# Altium schematic symbol library Personalitzats (2).SchLib: 77 symbols
Pins are listed as number, name and electrical type; pins without a type are passive.

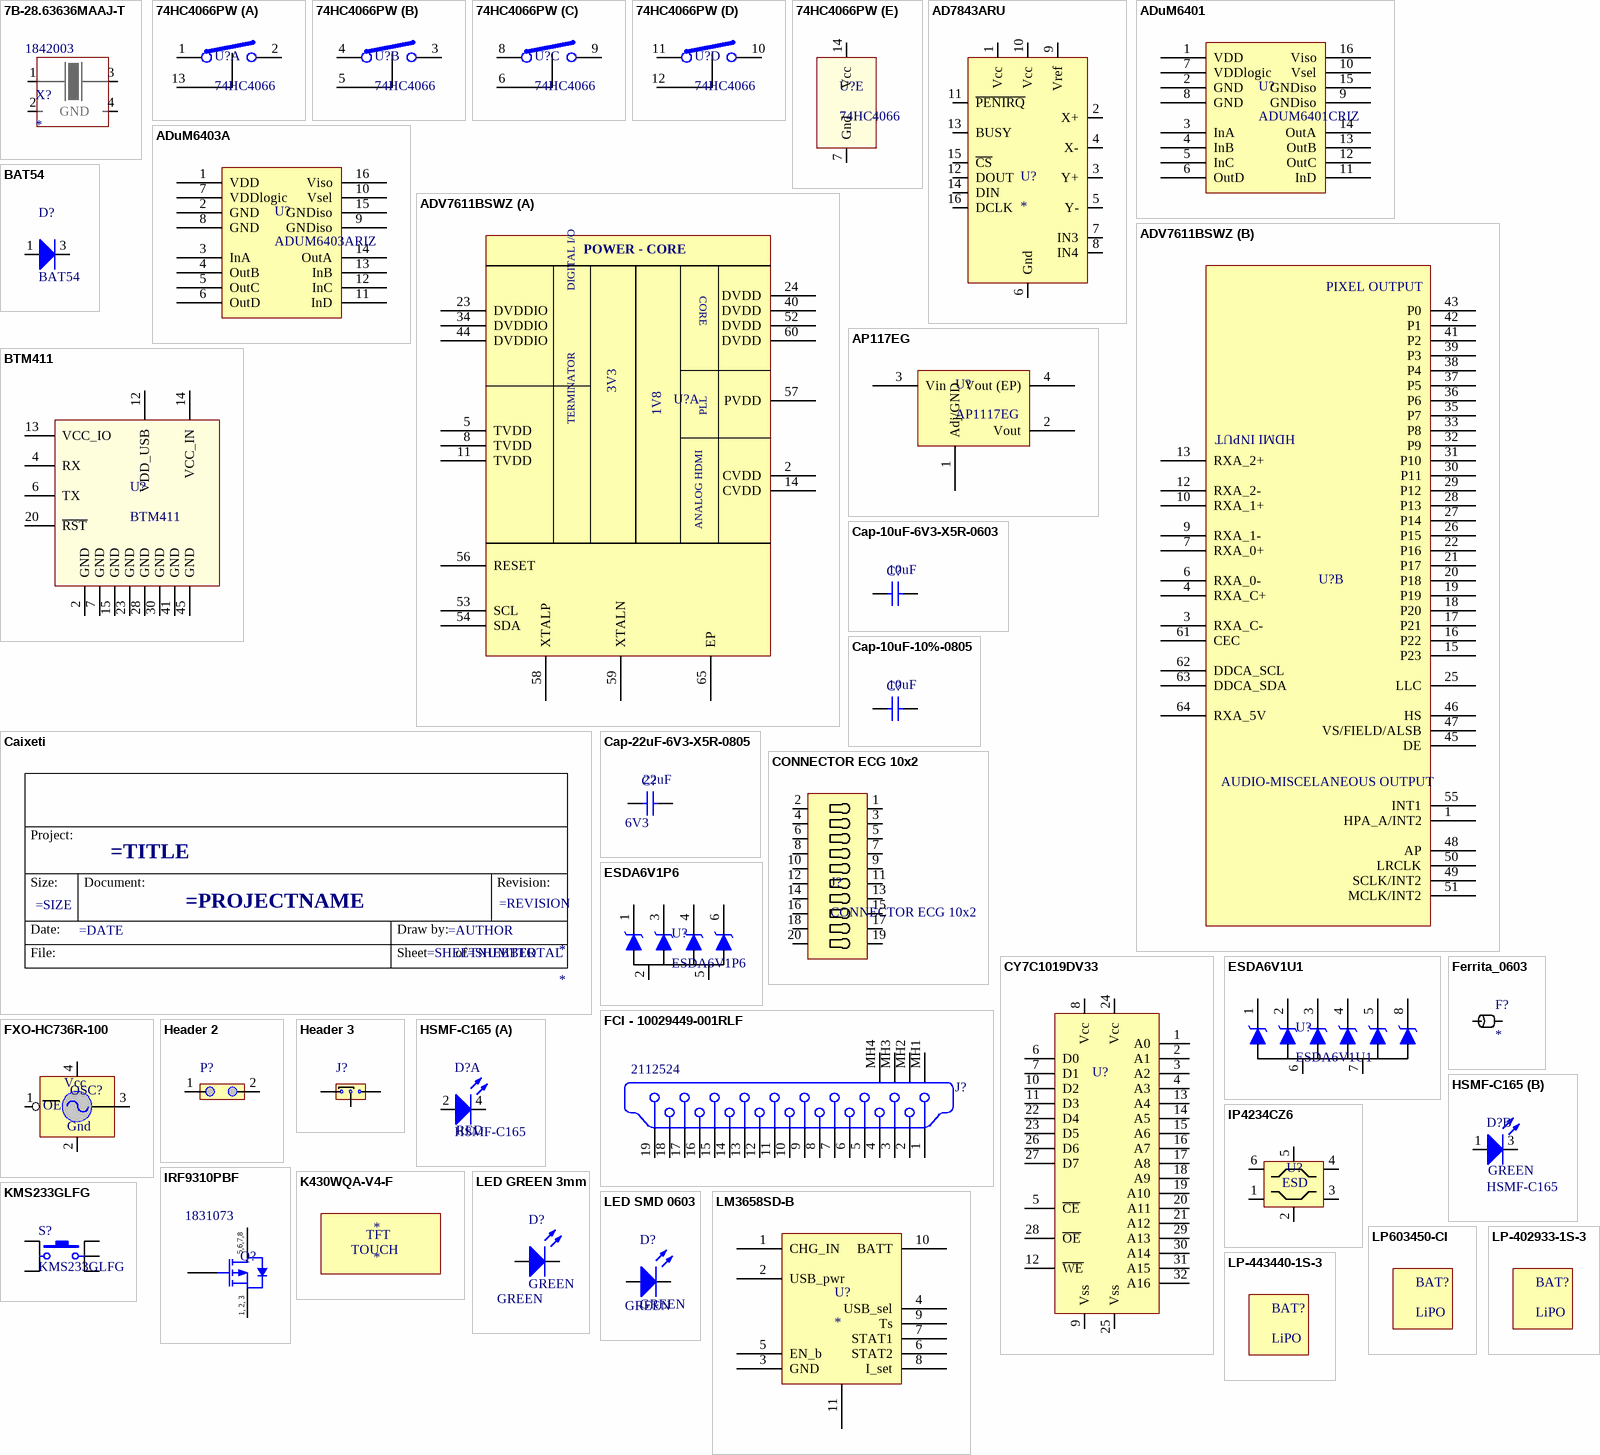
[diagram p0: symbols 7B-28.63636MAAJ-T to LP-443440-1S-3]

## 7B-28.63636MAAJ-T
designator X?  Supplier Part Number 1: 1842003
Supplier 1: Farnell
footprint 3.2x5 mm ceramic  package (Miniature Quartz Crystals)
pins: 1 X1, 2 GND, 3 X2, 4 GND

## 74HC4066PW
designator U?, comment 74HC4066
Analog Switch
footprint TSOP65P640-14AM (TSOP, 14-Leads, Body 5x4.4mm, Pitch 0.65mm, IPC Low Density)
part A pins: 1 Y, 2 Z, 13 E
part B pins: 3 Z, 4 Y, 5 E
part C pins: 6 E, 8 Y, 9 Z
part D pins: 10 Z, 11 Y, 12 E
part E pins: 7 Gnd, 14 Vcc

## AD7843ARU
designator U?
footprint TSSOP16
pins: 1 Vcc, 2 X+, 3 Y+, 4 X-, 5 Y-, 6 Gnd, 7 IN3, 8 IN4, 9 Vref, 10 Vcc, 11 ~{PENIRQ}, 12 DOUT, 13 BUSY, 14 DIN, 15 ~{CS}, 16 DCLK

## ADuM6401
designator U?, comment ADUM6401CRIZ
isolated DC/DC + quad channels
footprint SOIC127P1030-16CN (SOIC, 16-Leads, Body 10.5x7.5mm, Pitch 1.27mm, IPC Medium Density)
pins: 1 VDD, 2 GND, 3 InA, 4 InB, 5 InC, 6 OutD, 7 VDDlogic, 8 GND, 9 GNDiso, 10 Vsel, 11 InD, 12 OutC, 13 OutB, 14 OutA, 15 GNDiso, 16 Viso

## ADuM6403A
designator U?, comment ADUM6403ARIZ
isolated DC/DC + quad channels
footprint SOIC127P1030-16CN (SOIC, 16-Leads, Body 10.5x7.5mm, Pitch 1.27mm, IPC Medium Density)
pins: 1 VDD, 2 GND, 3 InA, 4 OutB, 5 OutC, 6 OutD, 7 VDDlogic, 8 GND, 9 GNDiso, 10 Vsel, 11 InD, 12 InC, 13 InB, 14 OutA, 15 GNDiso, 16 Viso

## ADV7611BSWZ
designator U?, comment HDMI INPUT  (value not drawn)
ADV7611BSWZ; Supplier 1: Farnell; Supplier Part Number 1: 1903660
footprint TSQFP50P1200X1200_HS-64L (Thin QFP, 64-Leads, Body 10x10mm, Pitch 0.5mm, Exposed Pad, IPC High Density)
part A pins: 2 CVDD (power) "Power", 5 TVDD (power) "Power", 8 TVDD (power) "Power", 11 TVDD (power) "Power", 14 CVDD (power) "Power", 23 DVDDIO (power) "Power", 24 DVDD (power) "Power", 34 DVDDIO (power) "Power", 40 DVDD (power) "Power", 44 DVDDIO (power) "Power", 52 DVDD (power) "Power", 53 SCL "Miscellaneous digital", 54 SDA "Miscellaneous digital", 56 RESET "Miscellaneous digital", 57 PVDD (power) "Power", 58 XTALP "Miscellaneous digital", 59 XTALN "Miscellaneous digital", 60 DVDD (power) "Power", 65 EP "Exposed Pad"
part B pins: 1 HPA_A/INT2 "Miscellaneous digital", 3 RXA_C- "HDMI input", 4 RXA_C+ "HDMI input", 6 RXA_0- "HDMI input", 7 RXA_0+ "HDMI input", 9 RXA_1- "HDMI input", 10 RXA_1+ "HDMI input", 12 RXA_2- "HDMI input", 13 RXA_2+ "HDMI input", 15 P23 "Digital video output", 16 P22 "Digital video output", 17 P21 "Digital video output", 18 P20 "Digital video output", 19 P19 "Digital video output", 20 P18 "Digital video output", 21 P17 "Digital video output", 22 P16 "Digital video output", 25 LLC "Digital video output", 26 P15 "Digital video output", 27 P14 "Digital video output", 28 P13 "Digital video output", 29 P12 "Digital video output", 30 P11 "Digital video output", 31 P10 "Digital video output", 32 P9 "Digital video output", 33 P8 "Digital video output", 35 P7 "Digital video output", 36 P6 "Digital video output", 37 P5 "Digital video output", 38 P4 "Digital video output", 39 P3 "Digital video output", 41 P2 "Digital video output", 42 P1 "Digital video output", 43 P0 "Digital video output", 45 DE "Miscellaneous digital", 46 HS "Digital video output", 47 VS/FIELD/ALSB "Digital input/output", 48 AP "Miscellaneous digital", 49 SCLK/INT2 "Miscellaneous digital", 50 LRCLK "Miscellaneous digital", 51 MCLK/INT2 "Miscellaneous digital", 55 INT1 "Miscellaneous digital", 61 CEC "Digital input/output", 62 DDCA_SCL "HDMI input", 63 DDCA_SDA "HDMI input", 64 RXA_5V "HDMI input"
part A text: POWER - CORE; DIGITAL I/O; CORE; 3V3; 1V8; PLL; TERMINATOR; ANALOG HDMI
part B text: PIXEL OUTPUT; AUDIO-MISCELANEOUS OUTPUT

## AP117EG
designator U?, comment AP1117EG
footprint SOT223-4L (SOT223, 4-Leads, Body 6.5x3.5mm, Pitch 2.3mm, Lead Span 7mm, IPC High Density)
pins: 1 Adj/GND (power), 2 Vout (power), 3 Vin (power), 4 Vout (EP)

## BAT54
designator D?
SCHOTTKY DIODE; Published: 8-Jun-2000; LatestRevisionDate: 08-Jul-2005; LatestRevisionNote: Mech Layer 1 removed.; Publisher: Altium Limited; PackageDescription: SOT23; Diameter: 3mm
footprint SOT23
pins: 1 A "Red A", 3 K "Red K"

## BTM411
designator U?
BTM411 Bluetooth Module
footprint BTM411 (Laird Bluetooth Module)
pins: 2 GND, 4 RX, 6 TX, 7 GND, 12 VDD_USB, 13 VCC_IO, 14 VCC_IN, 15 GND, 20 ~{RST}, 23 GND, 28 GND, 30 GND, 41 GND, 45 GND

## Caixeti
designator *  (no BOM)
Titol: =TITLE; Revisio: =REVISION; Sheet: =SHEETNUMBER; NumberOfSheets: =SHEETTOTAL; Tamany: =SIZE; Nom: =PROJECTNAME; Autor: =AUTHOR; Data: =DATE
text: Project:; Size:; Document:; Revision:; Date:; Draw by:; File:; Sheet        of

## Cap-10uF-6V3-X5R-0603
designator C?  value 10uF  (hidden comment: Cap-10uF-6V3-X5R-0603)
Capacitor; Published: 8-Jun-2000; LatestRevisionDate: 17-Jul-2002; LatestRevisionNote: Re-released for DXP Platform.; PackageReference: RAD-0.3; Publisher: Altium Limited; PackageDescription: Radial Cap, Thru-Hole; 2 Leads; 0.3 in Pin Spacing
footprint CAPC1608N (Chip Capacitor, Body 1.6x0.8mm, IPC Medium Density)
pins: 1, 2

## Cap-10uF-10%-0805
designator C?  value 10uF  (hidden comment: Cap-10uF-10%-0805)
Capacitor; Published: 8-Jun-2000; LatestRevisionDate: 17-Jul-2002; LatestRevisionNote: Re-released for DXP Platform.; PackageReference: RAD-0.3; Publisher: Altium Limited; PackageDescription: Radial Cap, Thru-Hole; 2 Leads; 0.3 in Pin Spacing
footprint CAPC2012N (Chip Capacitor, Body 2.0x1.3mm, IPC Medium Density)
pins: 1, 2

## Cap-22uF-6V3-X5R-0805
designator C?  value 22uF  Voltage: 6V3  (hidden comment: Cap-22uF-6V3-X5R-0805)
Capacitor; Dielectric: X5R; Published: 8-Jun-2000; LatestRevisionDate: 17-Jul-2002; LatestRevisionNote: Re-released for DXP Platform.; PackageReference: RAD-0.3; Publisher: Altium Limited; PackageDescription: Radial Cap, Thru-Hole; 2 Leads; 0.3 in Pin Spacing
footprint CAPC2012N (Chip Capacitor, Body 2.0x1.3mm, IPC Medium Density)
pins: 1, 2

## CONNECTOR ECG 10x2
designator J?
footprint 2x10 YOKE PCB CONNECTOR
pins: 1, 2, 3, 4, 5, 6, 7, 8, 9, 10, 11, 12, 13, 14, 15, 16, 17, 18, 19, 20

## CY7C1019DV33
designator U?  (value not drawn)
footprint V32 (SOJ, Molded; 32 Leads; Body Width 10.16 mm)
pins: 1 A0, 2 A1, 3 A2, 4 A3, 5 ~{CE}, 6 D0, 7 D1, 8 Vcc, 9 Vss, 10 D2, 11 D3, 12 ~{WE}, 13 A4, 14 A5, 15 A6, 16 A7, 17 A8, 18 A9, 19 A10, 20 A11, 21 A12, 22 D4, 23 D5, 24 Vcc, 25 Vss, 26 D6, 27 D7, 28 ~{OE}, 29 A13, 30 A14, 31 A15, 32 A16

## ESDA6V1P6
designator U?
6 UNIDIRECTIONAL TRANSIL FUNCTIONS  ?  LOW LEAKAGE CURRENT: I  R  max. < 2  µ  A  ?  200 W PEAK PULSE POWER (8/20  µ  s)
footprint SOT666IP
pins: 1, 2, 3, 4, 5, 6

## ESDA6V1U1
designator U?
6 UNIDIRECTIONAL TRANSIL FUNCTIONS  ?  LOW LEAKAGE CURRENT: I  R  max. < 2  µ  A  ?  200 W PEAK PULSE POWER (8/20  µ  s)
footprint SO8_N (SOIC, 8-Leads, Body 4.9x3.9mm, Pitch 1.27mm, IPC Medium Density)
pins: 1, 2, 3, 4, 5, 6, 7, 8

## FCI - 10029449-001RLF
designator J?  Supplier Part Number 1: 2112524
FCI - 10029449-001RLF - CONNECTOR, HDMI, RECEPTACLE, 19WAY; PCB_Layout: Complies with manufacturer's recommendation.; Published: 21-Sep-2007; DatasheetVersion: rev1, Nov-2006; PackageReference: mini-HDMI; Publisher: Altium Limited; PackageDescription: HDMI 1.3 Type C, SM, 19 Position, Female, Right Angle, Body 7.9 x 11.2 x 3.3 mm (LxWxH); ComponentLink1Description: Manufacturer Link; ComponentLink1URL: http://www.wieson.com/; ComponentLink2Description: Datasheet; ComponentLink2URL: http://www.wieson.com/drawing_dwn.php?ID=990&Field=ProImg; Supplier 1: Farnell
signal-integrity model HDMI
footprint mini-HDMI (Connector; mini-HDMI, SM, 19 Position, Right Angle, Body 7.9 x 11.2 x 3.3 mm (LxWxH))
pins: 1 "TMDS Data2+", 2 "TMDS Data2 Shield", 3 "TMDS Data2-", 4 "TMDS Data1+", 5 "TMDS Data1 Shield", 6 "TMDS Data1-", 7 "TMDS Data0+", 8 "TMDS Data0 Shield", 9 "TMDS Data0-", 10 "TMDS Clock+", 11 "TMDS Clock Shield", 12 "TMDS Clock-", 13 "CEC", 14 "Reserved (N/C on device)", 15 "SCL", 16 "SDA", 17 "DDC/CEC Ground", 18 "+5V Power", 19 "Hot Plug Detect", MH1 "Ground Plane (Shell)", MH2 "Ground Plane (Shell)", MH3 "Ground Plane (Shell)", MH4 "Ground Plane (Shell)"

## Ferrita_0603
designator F?
Impedance: *; Frequency: *; Current: *
footprint INDC0603L (Chip Inductor, Body 0.6x0.3mm, IPC High Density)
pins: 1, 2

## FXO-HC736R-100
designator OSC?  (value not drawn)
OSC., 100 MHZ, 3,3 V, SMD, 25ppm; Supplier 1: Farnell; Supplier Part Number 1: 2064049
footprint 5x7 mm ceramic  package - Alternate pin num (Miniature Quartz Crystals)
pins: 1 ~{OE}, 2 Gnd, 3 Out, 4 Vcc
text: OE

## Header 2
designator P?
Header, 2-Pin; LatestRevisionDate: 17-Jul-2002; LatestRevisionNote: Re-released for DXP Platform.; Publisher: Altium Limited
footprint HDR1X2 (Connector; Header; 2 Position)
signal-integrity model Connector
pins: 1, 2

## Header 3
designator J?  (value not drawn)
Header, 3-Pin; LatestRevisionDate: 17-Jul-2002; LatestRevisionNote: Re-released for DXP Platform.; Publisher: Altium Limited
footprint HDR1X3
signal-integrity model Connector
pins: 1, 2, 3

## HSMF-C165
designator D?
SMD LED BICOLOR RED/GREEN; Published: 8-Jun-2000; LatestRevisionDate: 08-Jul-2005; LatestRevisionNote: Mech Layer 1 removed.; PackageReference: LED-0; Publisher: Altium Limited; PackageDescription: LED; 4 Leads; Diameter: 3mm
footprint HSMF (SMD BICOLOR LED)
part A pins: 2 A "Red A", 4 K "Red K"
part B pins: 1 A "Green A", 3 K "Green K"
part A text: RED
part B text: GREEN

## IP4234CZ6
designator U?, comment Single USB 2.0 ESD protection to IEC 61000-4-2 level 4  (value not drawn)
IP4234CZ6; Supplier 1: Farnell; Supplier Part Number 1: 1829276
footprint SOT457 (SOT-457/SC-74; 6 Leads; Body 3.1 x 3 mm, inc. leads (LxW max))
pins: 1, 2, 3, 4, 5, 6
text: ESD

## IRF9310PBF
designator Q?  Supplier Part Number 1: 1831073  (hidden comment: IRF9310PBF)
MOSFET-P , 20A, 30V; Supplier 1: Farnell
footprint SO8 (Small Outline; 8 Leads; Body Width 3.9 mm; Pitch 1.27 mm)
pins: 1 S, 2 S, 3 S, 4 G, 5 D, 6 D, 7 D, 8 D
text: 5,6,7,8; 1, 2, 3

## K430WQA-V4-F
designator *
footprint K430WQA-V4-F
text: TFT; TOUCH

## KMS233GLFG
designator S?
Switch; Published: 24-Mar-1999; LatestRevisionDate: 17-Jul-2002; LatestRevisionNote: Re-released for DXP Platform.; PackageReference: SPST-NO; Publisher: Altium Limited; PackageDescription: Switch; 2 Leads
footprint KMS233GLFG (SWITCH, SPST-NO, 2N, 0.1A, 32VDC)
pins: 1, 2, 3, 4, 5

## LED GREEN 3mm
designator D?, comment GREEN
LED GREEN 3mm; Published: 8-Jun-2000; LatestRevisionDate: 08-Jul-2005; LatestRevisionNote: Mech Layer 1 removed.; PackageReference: LED-0; Publisher: Altium Limited; PackageDescription: LED; 2 Leads; Diameter: 3mm; Color: GREEN
footprint LED-0 (LED; 2 Leads)
simulation model LED0 (Diode)
pins: 1 A, 2 K

## LED SMD 0603
designator D?, comment GREEN
LED 0603; Published: 8-Jun-2000; LatestRevisionDate: 08-Jul-2005; LatestRevisionNote: Mech Layer 1 removed.; PackageReference: LED-0; Publisher: Altium Limited; PackageDescription: LED; 2 Leads; Diameter: 3mm; Color: GREEN
footprint LED-0 (Footprint not found)
simulation model LED0 (Diode)
pins: 1 A, 2 K

## LM3658SD-B
designator U?
single cell lithium_ion/li_po charger
pins: 1 CHG_IN, 2 USB_pwr, 3 GND, 4 USB_sel, 5 EN_b, 6 STAT2, 7 STAT1, 8 I_set, 9 Ts, 10 BATT, 11 Pad1

## LP603450-CI
designator BAT?, comment LiPO
3V7@1050mAh
footprint LP603450-CI (Pack bateria Medica de 1050mAh)

## LP-402933-1S-3
designator BAT?, comment LiPO
3V7@300mAh
footprint LP-402933-IS-3

## LP-443440-1S-3
designator BAT?, comment LiPO
3V7@560mAh
footprint LP-443440-1S-3

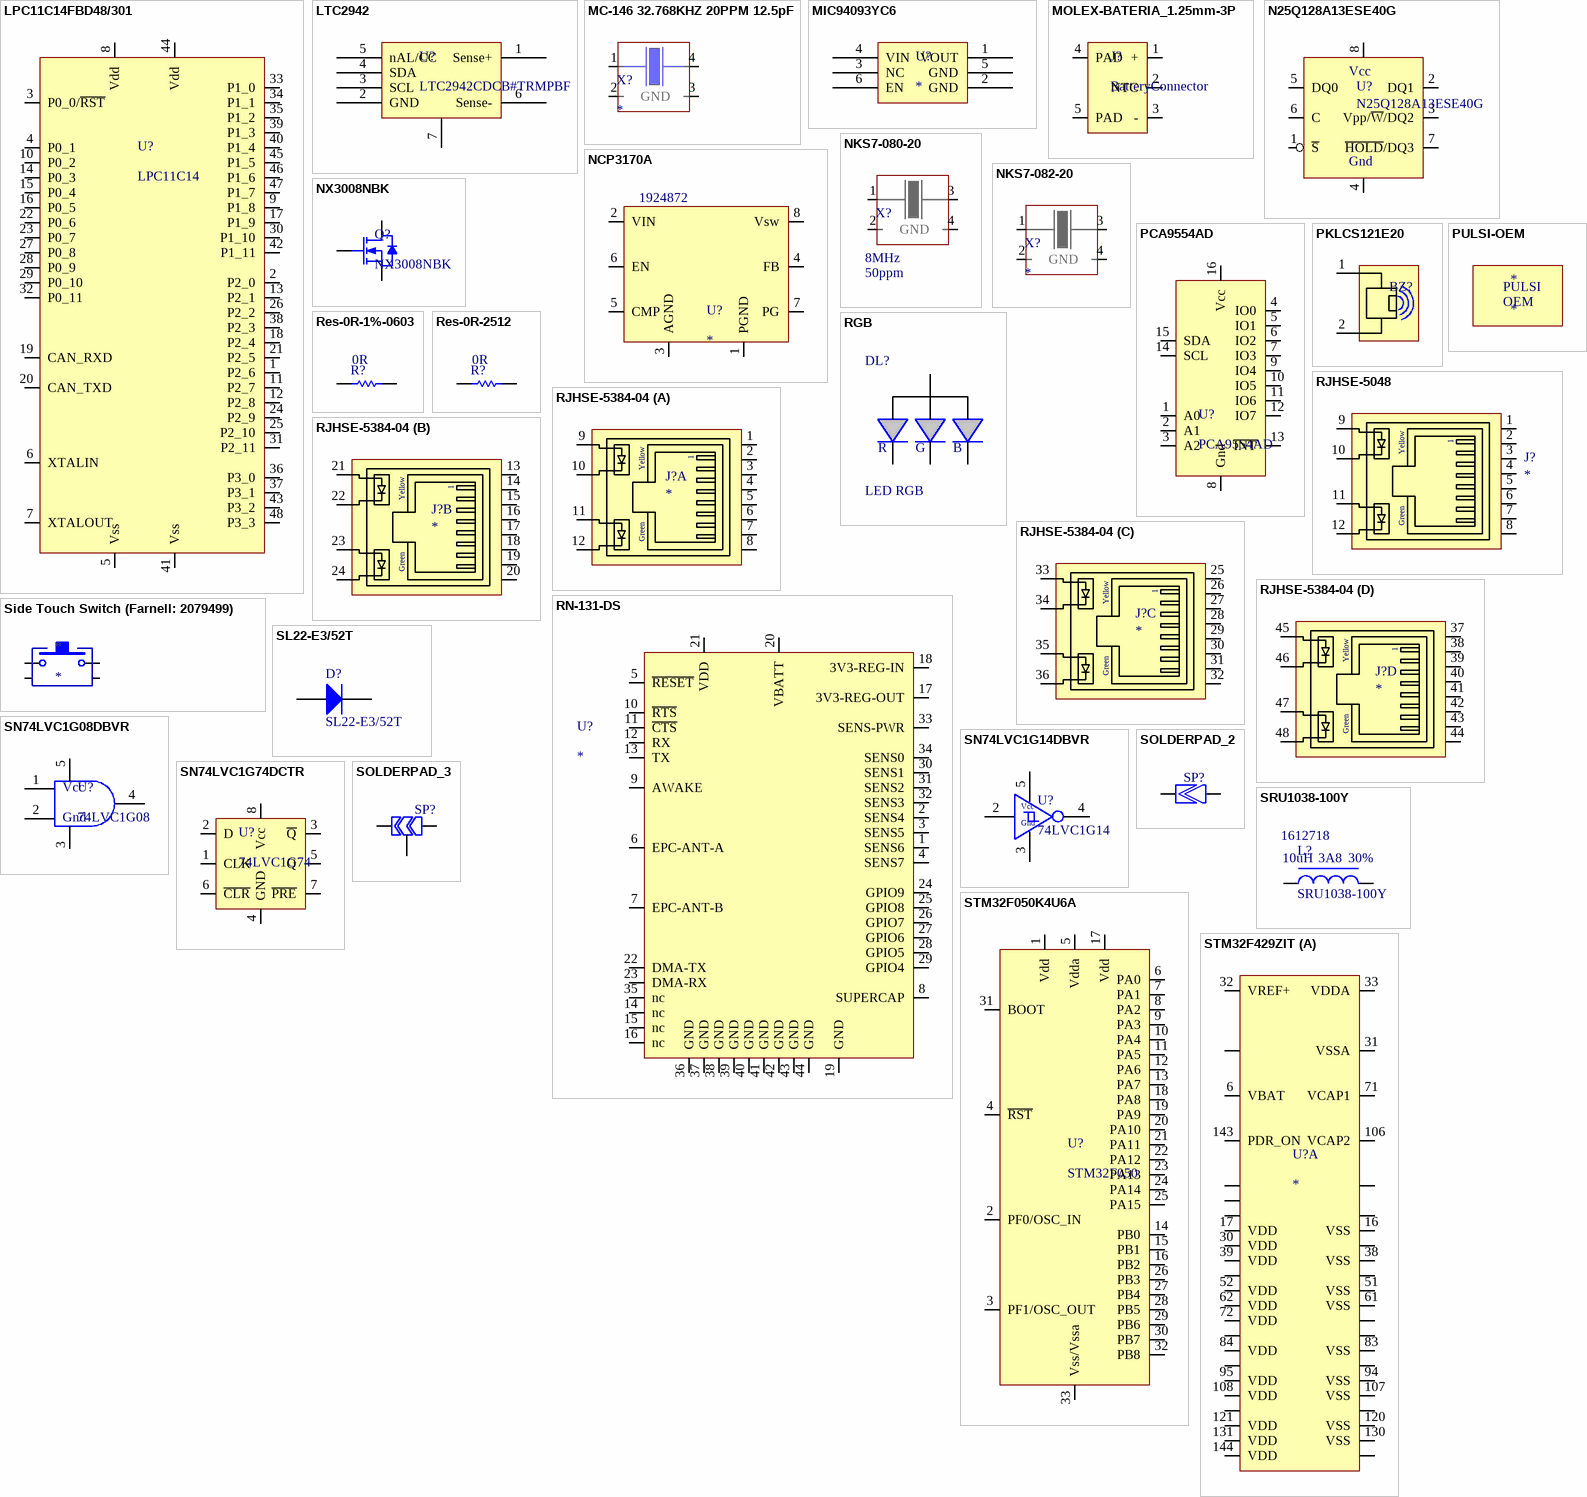
[diagram p1: symbols LPC11C14FBD48/301 to STM32F429ZIT]

## LPC11C14FBD48/301
designator U?, comment LPC11C14
footprint SQFP50P900X900-48M (Shrink QFP, 48-Leads, Body 7x7mm, Pitch 0.5mm, IPC Low Density)
pins: 1 P2_6, 2 P2_0, 3 P0_0/~{RST}, 4 P0_1, 5 Vss, 6 XTALIN, 7 XTALOUT, 8 Vdd (power), 9 P1_8, 10 P0_2, 11 P2_7, 12 P2_8, 13 P2_1, 14 P0_3, 15 P0_4, 16 P0_5, 17 P1_9, 18 P2_4, 19 CAN_RXD, 20 CAN_TXD, 21 P2_5, 22 P0_6, 23 P0_7, 24 P2_9, 25 P2_10, 26 P2_2, 27 P0_8, 28 P0_9, 29 P0_10, 30 P1_10, 31 P2_11, 32 P0_11, 33 P1_0, 34 P1_1, 35 P1_2, 36 P3_0, 37 P3_1, 38 P2_3, 39 P1_3, 40 P1_4, 41 Vss, 42 P1_11, 43 P3_2, 44 Vdd (power), 45 P1_5, 46 P1_6, 47 P1_7, 48 P3_3

## LTC2942
designator U?, comment LTC2942CDCB#TRMPBF
fuel gauge with integrated adc; alternative: ltc2941 doesn't have adc for voltage/temp measurement; note: -1 version has internal rsense
footprint DFN6-2x3mm
pins: 1 Sense+, 2 GND, 3 SCL, 4 SDA, 5 nAL/CC, 6 Sense-, 7 Pad1

## MC-146 32.768KHZ 20PPM 12.5pF
designator X?
Supplier 1: Farnell; Supplier Part Number 1: 1278038
footprint MC-146
pins: 1 X1, 2 GND, 3 GND, 4 X2

## MIC94093YC6
designator U?
high side load switch with active load discharge
footprint SOT363-6N (SOT363, 6-Leads, Body 2x1.3mm, Pitch 0.65mm, Lead Span 2.1mm, IPC Medium Density)
pins: 1 VOUT, 2 GND, 3 NC, 4 VIN, 5 GND, 6 EN

## MOLEX-BATERIA_1.25mm-3P
designator J?, comment BatteryConnector
footprint MOLEX-SD-53261-0319
pins: 1 +, 2 NTC, 3 -, 4 PAD, 5 PAD

## N25Q128A13ESE40G
designator U?
FLASH, SERIE, 128 MB, 3V, 8WSOIC; Supplier 1: Farnell; Supplier Part Number 1: 2253682
footprint SO8W (Small Outline; 8 Leads; Body Width 7.5 mm; Pitch 1.27 mm)
pins: 1 ~{S}, 2 DQ1, 3 Vpp/~{W}/DQ2, 4 GND, 5 DQ0, 6 C, 7 ~{HOLD}/DQ3, 8 Vcc
text: Gnd

## NCP3170A
designator U?  Supplier Part Number 1: 1924872
NCP3170A; Supplier 1: Farnell
footprint 751-05_N (8-Pin Small Outline Integrated Circuit 1.27 mm Pitch, IPC Medium Density)
pins: 1 PGND, 2 VIN (power), 3 AGND, 4 FB, 5 CMP, 6 EN, 7 PG, 8 Vsw

## NKS7-080-20
designator X?  value 8MHz  Tolerance: 50ppm  (hidden comment: *)
footprint 5x7 mm ceramic  package (Miniature Quartz Crystals)
pins: 1 X1, 2 GND, 3 X2, 4 GND

## NKS7-082-20
designator X?
footprint 5x7 mm ceramic  package (Miniature Quartz Crystals)
pins: 1 X1, 2 GND, 3 X2, 4 GND

## NX3008NBK
designator Q?
footprint SOT23-3L (SOT23, 3-Leads, Body 2.9x1.3mm, Pitch 0.95mm, Lead Span 2.5mm, IPC High Density)
pins: 1 G, 2 S, 3 D

## PCA9554AD
designator U?
footprint SOIC127P1030-16N (SOIC, 16-Leads, Body 10.3x7.5mm, Pitch 1.27mm, IPC Medium Density)
pins: 1 A0, 2 A1, 3 A2, 4 IO0, 5 IO1, 6 IO2, 7 IO3, 8 Gnd, 9 IO4, 10 IO5, 11 IO6, 12 IO7, 13 ~{INT}, 14 SCL, 15 SDA, 16 Vcc

## PKLCS121E20
designator BZ?, comment 2KHz 3V3 to 25Vpp Max  (value not drawn)
Supplier 1: Farnell; Supplier Part Number 1: 1765028
footprint Buzzer
pins: 1, 2

## PULSI-OEM
designator *
footprint PULSI_OEM
text: PULSI; OEM

## Res-0R-1%-0603
designator R?  value 0R  (hidden comment: *)
Resistor; Published: 8-Jun-2000; LatestRevisionDate: 17-Jul-2002; LatestRevisionNote: Re-released for DXP Platform.; PackageReference: AXIAL-0.5; Publisher: Altium Limited; PackageDescription: Axial Device, Thru-Hole; 2 Leads; 0.5 in Pin Spacing
footprint RESC1608N (Chip Resistor, Body 1.6x0.8mm, IPC Medium Density)
pins: 1, 2

## Res-0R-2512
designator R?  value 0R  (hidden comment: Res-0R-2512)
Resistor; Published: 8-Jun-2000; LatestRevisionDate: 17-Jul-2002; LatestRevisionNote: Re-released for DXP Platform.; PackageReference: AXIAL-0.5; Publisher: Altium Limited; PackageDescription: Axial Device, Thru-Hole; 2 Leads; 0.5 in Pin Spacing
footprint RESC6332N (Chip Resistor, Body 6.3x3.2mm, IPC Medium Density)
pins: 1, 2

## RGB
designator DL?, comment LED RGB
footprint PLCC-4
pins: 1 R, 2 C, 3 B, 4 G

## RJHSE-5048
designator J?
RJ45 LEDs TRH LENGUETA UP 1C
footprint P-RJHSE-538X-1
pins: 1, 2, 3, 4, 5, 6, 7, 8, 9, 10, 11, 12
text: Yellow; Green

## RJHSE-5384-04
designator J?
footprint P-RJHSE-538X-4
part A pins: 1, 2, 3, 4, 5, 6, 7, 8, 9, 10, 11, 12
part B pins: 13, 14, 15, 16, 17, 18, 19, 20, 21, 22, 23, 24
part C pins: 25, 26, 27, 28, 29, 30, 31, 32, 33, 34, 35, 36
part D pins: 37, 38, 39, 40, 41, 42, 43, 44, 45, 46, 47, 48
part A text: Yellow; Green
part B text: Yellow; Green
part C text: Yellow; Green
part D text: Yellow; Green

## RN-131-DS
designator U?
RN-131-DS
footprint RN-131-DS
pins: 1 SENS6, 2 SENS4, 3 SENS5, 4 SENS7, 5 ~{RESET}, 6 EPC-ANT-A, 7 EPC-ANT-B, 8 SUPERCAP, 9 AWAKE, 10 ~{RTS}, 11 ~{CTS}, 12 RX, 13 TX, 14 nc, 15 nc, 16 nc, 17 3V3-REG-OUT, 18 3V3-REG-IN, 19 GND, 20 VBATT, 21 VDD, 22 DMA-TX, 23 DMA-RX, 24 GPIO9, 25 GPIO8, 26 GPIO7, 27 GPIO6, 28 GPIO5, 29 GPIO4, 30 SENS1, 31 SENS2, 32 SENS3, 33 SENS-PWR, 34 SENS0, 35 nc, 36 GND, 37 GND, 38 GND, 39 GND, 40 GND, 41 GND, 42 GND, 43 GND, 44 GND

## Side Touch Switch (Farnell: 2079499)
designator *
footprint VERTICAL-SWITCH (5N Type Side-operational Light Touch Switches)
pins: 1, 2, 2 4, 2 3

## SL22-E3/52T
designator D?
SCHOTTKY RECTIFIER, 2A 20V; Published: 8-Jun-2000; LatestRevisionDate: 17-Jul-2002; LatestRevisionNote: Re-released for DXP Platform.; PackageVersion: Sep-1996; PackageReference: SMC; Publisher: Altium Limited; PackageDescription: DO-214-AB/SMC; 2 C-Bend Leads; Body 7.9 x 5.9 mm, inc. leads (LxW); Code_JEDEC: DO-214-AB
footprint SMC (DO-214-AB/SMC; 2 C-Bend Leads; Body 7.9 x 5.9 mm, inc. leads (LxW))
simulation model DIODE (Diode)
signal-integrity model Diode
pins: 1 A, 2 K

## SN74LVC1G08DBVR
designator U?, comment 74LVC1G08
footprint DBV005 (SOT-23/SC-74A; 5 Leads; Body 3 x 3 mm, inc. leads (LxW max))
pins: 1 A, 2 B, 3 GND (power), 4 Y, 5 Vcc (power)
text: Gnd

## SN74LVC1G14DBVR
designator U?, comment 74LVC1G14
footprint DBV005 (SOT-23/SC-74A; 5 Leads; Body 3 x 3 mm, inc. leads (LxW max))
pins: 2 A, 3 GND (power), 4 Y, 5 Vcc (power)
text: Gnd

## SN74LVC1G74DCTR
designator U?, comment 74LVC1G74
footprint TSOP65P490-8AN (TSOP, 8-Leads, Body 3x3mm, Pitch 0.65mm, IPC Medium Density)
pins: 1 CLK, 2 D, 3 ~{Q}, 4 GND, 5 Q, 6 ~{CLR}, 7 ~{PRE}, 8 Vcc

## SOLDERPAD_2
designator SP?  (value not drawn)
footprint SOLDERPAD_2 (Chip Resistor, Body 1.6x0.8mm, IPC Medium Density)
pins: 1, 2

## SOLDERPAD_3
designator SP?  (value not drawn)
footprint SOLDERPAD_3 (Chip Resistor, Body 1.6x0.8mm, IPC Medium Density)
pins: 1, 2, 3

## SRU1038-100Y
designator L?  value 10uH  tolerance: 30%  Isat: 3A8  Supplier Part Number 1: 1612718
Published: 24-Mar-1999; LatestRevisionDate: 17-Jul-2002; LatestRevisionNote: Re-released for DXP Platform.; PackageReference: SRU1038; Publisher: Altium Limited; PackageDescription: Axial Device, Thru-Hole; 2 Leads; 0.9 in Pin Spacing; Supplier 1: Farnell
footprint SRU1038 (Shielded SMD Power Inductors)
simulation model INDUCTOR (Inductor)
signal-integrity model Inductor Iron
pins: 1, 2

## STM32F050K4U6A
designator U?, comment STM32F050
footprint UFQFPN32
pins: 1 Vdd, 2 PF0/OSC_IN, 3 PF1/OSC_OUT, 4 ~{RST}, 5 Vdda, 6 PA0, 7 PA1, 8 PA2, 9 PA3, 10 PA4, 11 PA5, 12 PA6, 13 PA7, 14 PB0, 15 PB1, 16 PB2, 17 Vdd, 18 PA8, 19 PA9, 20 PA10, 21 PA11, 22 PA12, 23 PA13, 24 PA14, 25 PA15, 26 PB3, 27 PB4, 28 PB5, 29 PB6, 30 PB7, 31 BOOT, 32 PB8, 33 Vss/Vssa

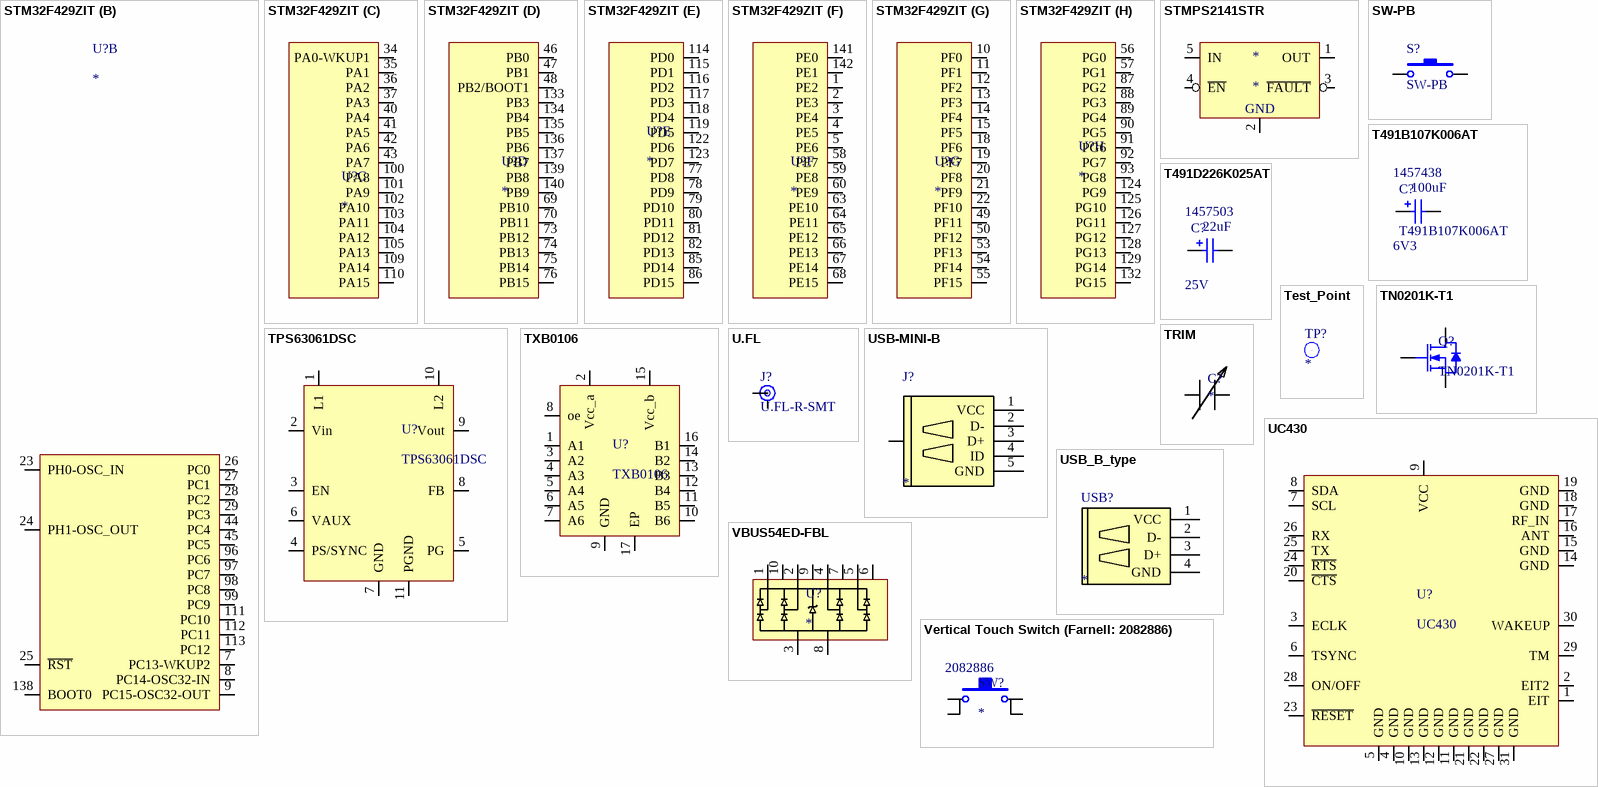
[diagram p2: symbols STM32F429ZIT to Vertical Touch Switch (Farnell: 2082886)]

## STM32F429ZIT
designator U?
footprint QUAD.50M/144/WG22.60
part A pins: 6 VBAT, 16 VSS, 17 VDD, 30 VDD, 31 VSSA, 32 VREF+, 33 VDDA, 38 VSS, 39 VDD, 51 VSS, 52 VDD, 61 VSS, 62 VDD, 71 VCAP1, 72 VDD, 83 VSS, 84 VDD, 94 VSS, 95 VDD, 106 VCAP2, 107 VSS, 108 VDD, 120 VSS, 121 VDD, 130 VSS, 131 VDD, 143 PDR_ON, 144 VDD
part B pins: 7 PC13-WKUP2, 8 PC14-OSC32-IN, 9 PC15-OSC32-OUT, 23 PH0-OSC_IN, 24 PH1-OSC_OUT, 25 ~{RST}, 26 PC0, 27 PC1, 28 PC2, 29 PC3, 44 PC4, 45 PC5, 96 PC6, 97 PC7, 98 PC8, 99 PC9, 111 PC10, 112 PC11, 113 PC12, 138 BOOT0
part C pins: 34 PA0-WKUP1, 35 PA1, 36 PA2, 37 PA3, 40 PA4, 41 PA5, 42 PA6, 43 PA7, 100 PA8, 101 PA9, 102 PA10, 103 PA11, 104 PA12, 105 PA13, 109 PA14, 110 PA15
part D pins: 46 PB0, 47 PB1, 48 PB2/BOOT1, 69 PB10, 70 PB11, 73 PB12, 74 PB13, 75 PB14, 76 PB15, 133 PB3, 134 PB4, 135 PB5, 136 PB6, 137 PB7, 139 PB8, 140 PB9
part E pins: 77 PD8, 78 PD9, 79 PD10, 80 PD11, 81 PD12, 82 PD13, 85 PD14, 86 PD15, 114 PD0, 115 PD1, 116 PD2, 117 PD3, 118 PD4, 119 PD5, 122 PD6, 123 PD7
part F pins: 1 PE2, 2 PE3, 3 PE4, 4 PE5, 5 PE6, 58 PE7, 59 PE8, 60 PE9, 63 PE10, 64 PE11, 65 PE12, 66 PE13, 67 PE14, 68 PE15, 141 PE0, 142 PE1
part G pins: 10 PF0, 11 PF1, 12 PF2, 13 PF3, 14 PF4, 15 PF5, 18 PF6, 19 PF7, 20 PF8, 21 PF9, 22 PF10, 49 PF11, 50 PF12, 53 PF13, 54 PF14, 55 PF15
part H pins: 56 PG0, 57 PG1, 87 PG2, 88 PG3, 89 PG4, 90 PG5, 91 PG6, 92 PG7, 93 PG8, 124 PG9, 125 PG10, 126 PG11, 127 PG12, 128 PG13, 129 PG14, 132 PG15

## STMPS2141STR
designator *
footprint SOT23_5
pins: 1 OUT, 2 GND, 3 ~{FAULT}, 4 ~{EN}, 5 IN

## SW-PB
designator S?
Switch; Published: 24-Mar-1999; LatestRevisionDate: 17-Jul-2002; LatestRevisionNote: Re-released for DXP Platform.; PackageReference: SPST-2; Publisher: Altium Limited; PackageDescription: Switch; 2 Leads
footprint Pulsador_3FSH9 (Multimec 3FSH9)
pins: 1, 2

## T491B107K006AT
designator C?  value 100uF  Voltage: 6V3  Supplier Part Number 1: 1457438
Published: 8-Jun-2000; LatestRevisionDate: 17-Jul-2002; LatestRevisionNote: Re-released for DXP Platform.; PackageReference: B; Publisher: Altium Limited; PackageDescription: TANTAL B CASE; Supplier 1: Farnell
footprint B (Capacitor, SM Tantalum; Body 3.5 x 2.8 mm (LxW typ))
simulation model CAP (Capacitor)
signal-integrity model Cap Pol
pins: 1, 2
1 alternate drawing of the same symbol

## T491D226K025AT
designator C?  value 22uF  Voltage: 25V  Supplier Part Number 1: 1457503  (hidden comment: T491D226K025AT)
Published: 8-Jun-2000; LatestRevisionDate: 17-Jul-2002; LatestRevisionNote: Re-released for DXP Platform.; PackageReference: D; Publisher: Altium Limited; PackageDescription: TANTAL D CASE; Supplier 1: Farnell
footprint D (Capacitor, SM Tantalum; Body 7.3 x 4.3 mm (LxW typ))
simulation model CAP (Capacitor)
signal-integrity model Cap Pol
pins: 1, 2
1 alternate drawing of the same symbol

## Test_Point
designator TP?
footprint TestPoint
pins: 1

## TN0201K-T1
designator Q?
footprint SOT23-3M (SOT23, 3-Leads, Body 2.9x1.3mm, Pitch 0.95mm, Lead Span 2.5mm, IPC Low Density)
pins: 1 G, 2 S, 3 D

## TPS63061DSC
designator U?
footprint SON10
pins: 1 L1, 2 Vin, 3 EN, 4 PS/SYNC, 5 PG, 6 VAUX, 7 GND, 8 FB, 9 Vout, 10 L2, 11 PGND

## TRIM
designator C?
GIGA-TRIM 0.6pF to 4.5pF
footprint TRIM
pins: 1, 2

## TXB0106
designator U?
footprint PW016 (Shrink Small Outline; 16 Leads; Body Width 4.4 mm; Pitch 0.65 mm); pin to pad 17>none
pins: 1 A1, 2 Vcc_a, 3 A2, 4 A3, 5 A4, 6 A5, 7 A6, 8 oe, 9 GND (power), 10 B6, 11 B5, 12 B4, 13 B3, 14 B2, 15 Vcc_b, 16 B1, 17 EP (power)

## U.FL
designator J?, comment U.FL-R-SMT
footprint U.FL-R-SMT (HIROSE SMD U.FL Antena connector.)
pins: 1, 2

## UC430
designator U?
footprint UC430
pins: 1 EIT, 2 EIT2, 3 ECLK, 4 GND, 5 GND, 6 TSYNC, 7 SCL, 8 SDA, 9 VCC, 10 GND, 11 GND, 12 GND, 13 GND, 14 GND, 15 GND, 16 ANT, 17 RF_IN, 18 GND, 19 GND, 20 ~{CTS}, 21 GND, 22 GND, 23 ~{RESET}, 24 ~{RTS}, 25 TX, 26 RX, 27 GND, 28 ON/OFF, 29 TM, 30 WAKEUP, 31 GND

## USB-MINI-B
designator J?
footprint USB_MINI_V3 (Connector mini USB)
pins: 0 "XASSIS", 1 VCC, 2 D-, 3 D+, 4 ID, 5 GND

## USB_B_type
designator USB?
pins: 1 VCC, 2 D-, 3 D+, 4 GND

## VBUS54ED-FBL
designator U?
pins: 1, 2, 3 GND, 4, 5, 6, 7, 8 GND, 9, 10

## Vertical Touch Switch (Farnell: 2082886)
designator SW?  Supplier Part Number 1: 2082886
Supplier 1: Farnell
footprint HORIZONTAL SWITCH (INTERRUPTOR, SMD, EMPUJAR, T/R DE 5 MM)
pins: 1, 2, 3, 4